# Altium footprint library rlc.PcbLib: 45 footprints (part 2 of 3)
Each footprint in its own frame and in the unit in brackets; x right, y up, seen from the top. Pads: shape width x height; smd on the part's side, far side on the other; paste and mask are expansions set on the pad; w line width, h text height; cw(c..) or ccw(c..) is an arc to the next point about the centre after c.
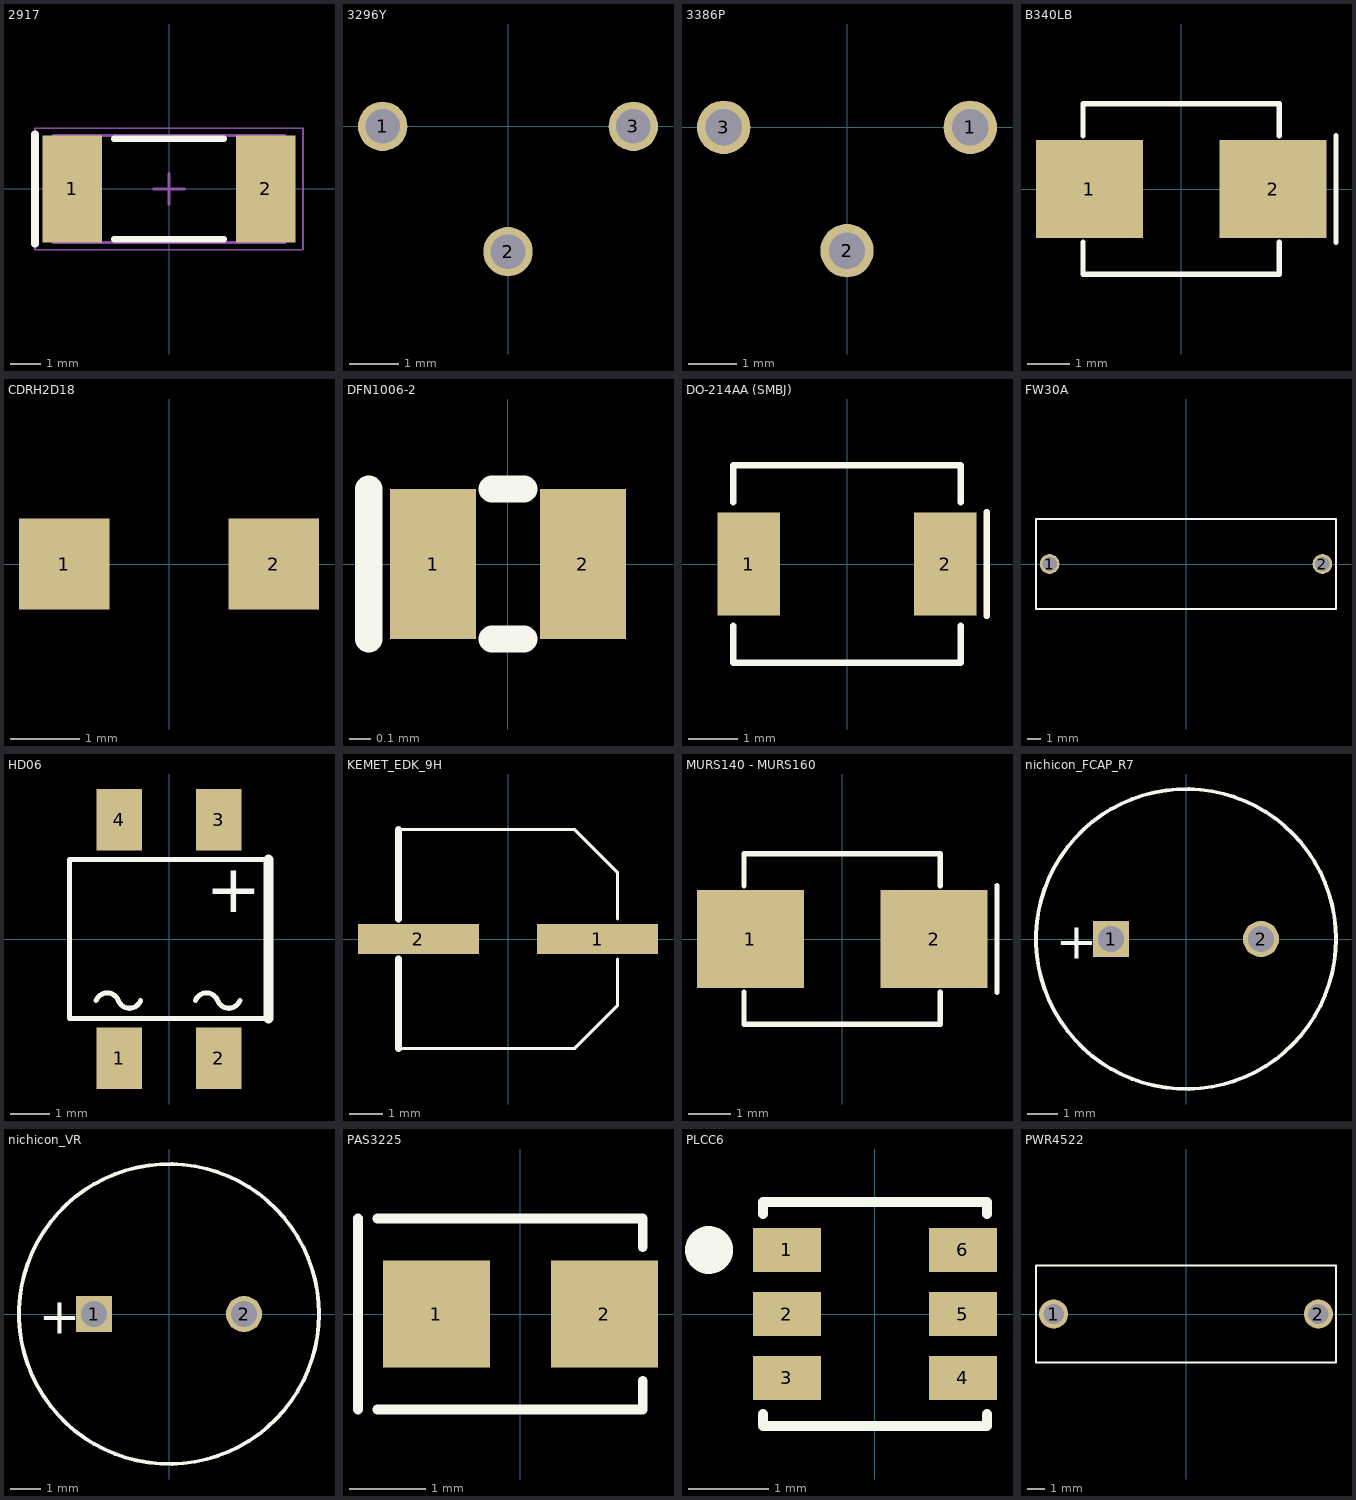
[diagram p1: the footprints below, top view; thin cyan lines are the x and y axes]

## 2917 [mm] "Chip Capacitor, 2-Leads, Body 7.30x3.20mm, IPC Medium Density"
height 3.1
pads (2):
  rect 1.95x3.5 smd: 1(-3.175,0) 2(3.175,0)
Top Overlay:
  lines w0.2: -1.8,-1.65 1.8,-1.65 ; -1.8,1.65 1.8,1.65
  lines w0.254: -4.4,-1.8 -4.4,1.8
Mechanical 13:
  lines w0.1: -3.8,-1.75 -3.8,1.75 3.8,1.75 3.8,-1.75 -3.8,-1.75
Mechanical 15:
  lines w0.05: -4.4,-2 -4.4,2 4.4,2 4.4,-2 -4.4,-2
  lines w0.1: -0.5,0 0.5,0 ; 0,-0.5 0,0.5
3D body: height 3.1, standoff 0, extent -2.5,-1.75 2.5,1.75
3D body: height 3.1, standoff 0, extent -3.8,-1.75 -2.5,1.75
3D body: height 3.1, standoff 0, extent 2.5,-1.75 3.8,1.75

## 3296Y [mm] "Bourns 3296Y trimmer"
pads (3):
  round 1 hole 0.7: 1(-2.54,0) 2(0,-2.54) 3(2.54,0)
3D body: height 10.8, standoff 10, extent 2.209,-3.198 4.4,-1.002
3D body: height 10, standoff 0, extent -4.8,-3.6 4.8,1.2

## 3386P [mm] "trimming pot"
pads (3):
  round 1.1 hole 0.75: 1(2.54,0) 2(0,-2.54) 3(-2.54,0)
3D body: height 4.83, standoff 0, extent -4.8,-4.8 4.8,4.8
3D body: height 4.85, standoff 3.85, extent -2.877,-2.894 2.9,2.894
3D body: height 4.86, standoff 4.83, extent -2.5,-2.5 2.5,2.5

## B340LB [mm] "Diodes B340LB"
pads (2):
  rect 2.5x2.3 smd: 1(-2.15,0) 2(2.15,0)
Top Overlay:
  lines w0.127: -2.3,-1.25 -2.3,-2 2.3,-2 2.3,-1.25 ; -2.3,1.25 -2.3,2 2.3,2 2.3,1.25 ; 3.625,-1.25 3.625,1.25
3D body: height 2.5, standoff 0, extent -2.3,-2 2.3,2

## CDRH2D18 [mm] "Sumdia SMD power inductor"
pads (2):
  rect 1.3x1.3 smd: 1(-1.5,0) 2(1.5,0)
3D body: height 2, standoff 1.8, extent -1.389,-1.347 1.4,1.447
3D body: height 1.8, standoff 0, extent -1.5,-1.7 1.5,1.8

## DFN1006-2 [mm]
pads (2):
  rect 0.4x0.7 smd: 1(-0.35,0) 2(0.35,0)
Top Overlay:
  lines w0.127: -0.65,-0.35 -0.65,0.35 ; -0.075,-0.35 0.075,-0.35 ; -0.075,0.35 0.075,0.35
3D body: height 0.51, standoff 0.5, extent -0.5,-0.3 -0.375,0.3
3D body: height 0.5, standoff 0, extent -0.5,-0.3 0.5,0.3

## DO-214AA (SMBJ) [mm] "Micro Commercial Components - DO214AA"
pads (2):
  rect 1.27x2.09 smd: 1(-1.99,0) 2(1.99,0)
Top Overlay:
  lines w0.127: -2.3,-1.25 -2.3,-2 2.3,-2 2.3,-1.25 ; -2.3,1.25 -2.3,2 2.3,2 2.3,1.25 ; 2.825,-1.05 2.825,1.05
3D body: height 2.44, standoff 0, extent -2.3,-2 2.3,2

## FW30A [mm] "Bourns FW30A through hole resistor"
pads (2):
  round 1.45 hole 1.05: 1(-10,0) 2(10,0)
Top Overlay:
  lines w0.127: -11,-3.3 11,-3.3 11,3.3 -11,3.3 -11,-3.3
3D body: height 6.6, standoff 0, extent -8,-3.346 8,3.25

## HD06 [mm] "Diodes - HD06"
pads (4):
  rect 1.15x1.55 smd: 1(-1.25,-3) 2(1.25,-3) 3(1.25,3) 4(-1.25,3)
Top Overlay:
  lines w0.127: -1.835,-1.55 cw(c-1.555,-1.657) -1.275,-1.55 ccw(c-0.995,-1.443) -0.715,-1.55 ; 0.665,-1.55 cw(c0.945,-1.657) 1.225,-1.55 ccw(c1.505,-1.443) 1.785,-1.55 ; 2.5,-2 -2.5,-2 -2.5,2 2.5,2
  lines w0.254: 2.5,-2 2.5,2
  text "+" at 0.925,0.675 h1.22
3D body: height 2.7, standoff 0, extent -2.5,-2 2.5,2

## KEMET_EDK_9H [mm] "Kemet surface mount aluminum capacitor EDK series 9H"
pads (2):
  rect 3.64x0.91 smd: 1(2.7,0) 2(-2.7,0)
Top Overlay:
  lines w0.1: -3.3,-3.3 2,-3.3 3.3,-2 3.3,-0.6 ; -3.3,3.3 2,3.3 3.3,2 3.3,0.6
  lines w0.2: -3.3,-3.3 -3.3,-0.6 ; -3.3,0.6 -3.3,3.3
3D body: height 1, standoff 0, extent -3.3,-3.3 3.3,3.3
3D body: height 8.7, standoff 1, extent -3.146,-3.149 3.15,3.149

## MURS140 - MURS160 [mm] "Diodes MURS140 - MURS160"
pads (2):
  rect 2.5x2.3 smd: 1(-2.15,0) 2(2.15,0)
Top Overlay:
  lines w0.127: -2.3,-1.25 -2.3,-2 2.3,-2 2.3,-1.25 ; -2.3,1.25 -2.3,2 2.3,2 2.3,1.25 ; 3.625,-1.25 3.625,1.25
3D body: height 2.5, standoff 0, extent -2.3,-2 2.3,2

## nichicon_FCAP_R7 [mm] "nichicon R7 series, 10x12.5"
pads (2):
  rect 1.2x1.2 hole 0.85: 1(-2.5,0)
  round 1.2 hole 0.85: 2(2.5,0)
Top Overlay:
  circle w0.127: c0,0 r5
  text "+" at -4.35,-0.65 h1.22
3D body: height 12.5, standoff 0, extent -5,-5 5,5

## nichicon_VR [mm] "nichicon VR series, 10x16"
pads (2):
  rect 1.2x1.2 hole 0.85: 1(-2.5,0)
  round 1.2 hole 0.85: 2(2.5,0)
Top Overlay:
  circle w0.127: c0,0 r5
  text "+" at -4.35,-0.65 h1.22
3D body: height 16, standoff 0, extent -5,-4.998 5,4.998

## PAS3225 [mm] "TAIYO YUDEN 3.2 x 2.5 mm polyacene capacitors"
pads (2):
  rect 1.4x1.4 smd: 1(-1.1,0) 2(1.1,0)
Top Overlay:
  lines w0.127: -2.125,-1.25 -2.125,1.25 ; -1.875,-1.25 1.6,-1.25 1.6,-0.875 ; -1.875,1.25 1.6,1.25 1.6,0.875
3D body: height 1, standoff 0, extent -1.6,-1.25 1.6,1.25

## PLCC6 [mm] "CREE PLCC6 LED"
pads (6):
  rect 0.85x0.55 smd: 1(-1.1,0.8) 2(-1.1,0) 3(-1.1,-0.8) 4(1.1,-0.8) 5(1.1,0) 6(1.1,0.8)
Top Overlay:
  circle w0.3: c-2.075,0.8 r0.15
  lines w0.127: -1.4,-1.25 -1.4,-1.4 1.4,-1.4 1.4,-1.25 ; -1.4,1.25 -1.4,1.4 1.4,1.4 1.4,1.25
3D body "User Library-RGB LED Zwart ASMT-YTC2-0AA02.STEP": height 1.85, standoff 0, extent -1.7,-1.4 1.7,1.4

## PWR4522 [mm] "Bourns PWR4522"
pads (2):
  round 1.65 hole 1.15: 1(-7.5,0) 2(7.5,0)
Top Overlay:
  lines w0.127: -8.5,-2.75 -8.5,2.75 8.5,2.75 8.5,-2.75 -8.5,-2.75
3D body: height 5.5, standoff 0, extent -5.75,-2.75 5.75,2.75